# Altium schematic symbol library Power.SchLib: 17 symbols
Pins are listed as number, name and electrical type; pins without a type are passive.

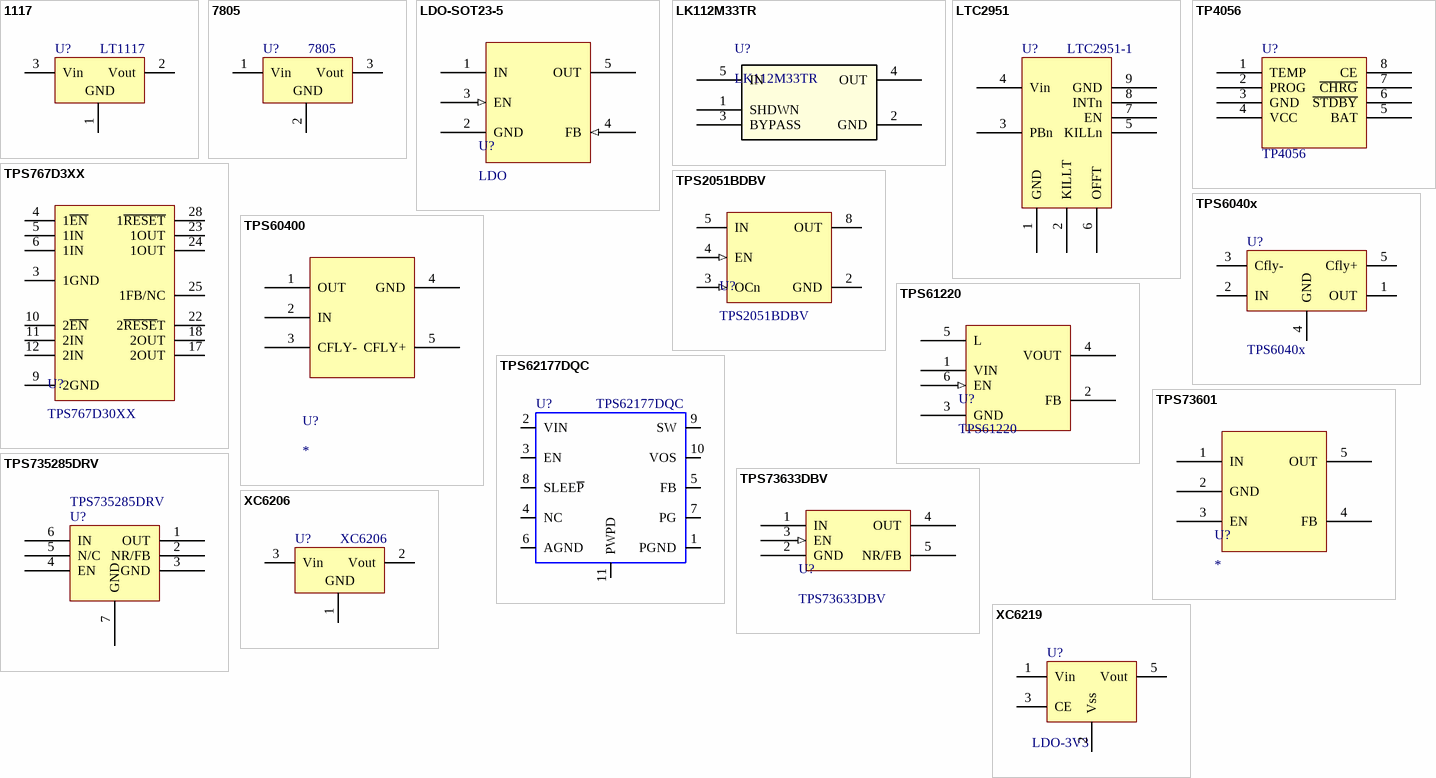
[diagram p0: symbols 1117 to XC6219]

## 1117
designator U?, comment LT1117
1117- 3.3 2.5 1.8; Published: 24-Mar-1999; LatestRevisionDate: 29-May-2009; LatestRevisionNote: IPC-7351 Footprint Added.; PackageReference: D2PAK; Publisher: Altium Limited; PackageDescription: 3-Pin Transistor Outline Package 2.54 mm Pitch, 15.1 mm Lead Span
footprint MP04A_L (SOT223, 4-Leads, Body 6.5x3.5mm, Pitch 2.3mm, Lead Span 7mm, IPC High Density)
pins: 1 GND/ADJUST, 2 Vout, 3 Vin
text: GND

## 7805
designator U?
Published: 24-Mar-1999; LatestRevisionDate: 29-May-2009; LatestRevisionNote: IPC-7351 Footprint Added.; PackageReference: D2PAK; Publisher: Altium Limited; PackageDescription: 3-Pin Transistor Outline Package 2.54 mm Pitch, 15.1 mm Lead Span
footprint TO-220
pins: 1 Vin, 2 GND, 3 Vout

## LDO-SOT23-5
designator U?, comment LDO
General LDO SOT23-5
footprint SOT23-5
pins: 1 IN (power), 2 GND (power), 3 EN (in), 4 FB (in), 5 OUT (power)

## LK112M33TR
designator U?
pins: 1 SHDWN, 2 GND, 3 BYPASS, 4 OUT, 5 IN

## LTC2951
designator U?, comment LTC2951-1
Part Number: LTC2951CDDB-1#TRMPBF; Manufacturer: Linear Technology
footprint LTC2951
pins: 1 GND, 2 KILLT, 3 PBn, 4 Vin, 5 KILLn, 6 OFFT, 7 EN, 8 INTn, 9 GND

## TP4056
designator U?
Li-Charging IC
footprint SOP8_L (8-Pin Small Outline Integrated Circuit 1.27 mm Pitch, IPC High Density)
pins: 1 TEMP, 2 PROG, 3 GND, 4 VCC, 5 BAT, 6 ~{STDBY}, 7 ~{CHRG}, 8 CE

## TPS767D3XX
designator U?, comment TPS767D30XX
DUAL-OUTPUT LOW-DROPOUT VOLTAGE REGULATORS
footprint HTSSOP
pins: 3 1GND (power), 4 1~{EN} (power), 5 1IN (power), 6 1IN (power), 9 2GND (power), 10 2~{EN} (power), 11 2IN (power), 12 2IN (power), 17 2OUT (power), 18 2OUT (power), 22 2~{RESE}T (power), 23 1OUT (power), 24 1OUT (power), 25 1FB/NC (power), 28 1~{RESET} (power)

## TPS2051BDBV
designator U?
footprint SOT23-5
pins: 2 GND (power), 3 OCn (in), 4 EN (in), 5 IN (power), 8 OUT (power)

## TPS6040x
designator U?
UNREGULATED 60-mA CHARGE PUMP VOLTAGE INVERTER
footprint SOT23-5
pins: 1 OUT, 2 IN, 3 Cfly-, 4 GND, 5 Cfly+

## TPS60400
designator U?
VOLTAGE INVERTTER
footprint SOT23-5
pins: 1 OUT, 2 IN, 3 CFLY-, 4 GND, 5 CFLY+

## TPS61220
designator U?
Boost Converter with Low Quiescent Current
pins: 1 VIN (power), 2 FB (power), 3 GND (power), 4 VOUT (power), 5 L (power), 6 EN (in)

## TPS62177DQC
designator U?
Regulator, Step Down  3.3V, 0.5A; GNUM: G51-DQC10-2177-AAA; PCB DECAL: DQC-10P; Part Number: TPS62177DQC; Value: TPS62177DQC
footprint DQC-10P
pins: 1 PGND, 2 VIN, 3 EN, 4 NC, 5 FB, 6 AGND, 7 PG, 8 SLEE~{P}, 9 SW, 10 VOS, 11 PWPD

## TPS73601
designator U?
LDR
footprint SOT23-5
pins: 1 IN, 2 GND, 3 EN, 4 FB, 5 OUT

## TPS73633DBV
designator U?
NMOS, 400mA LDO with Reverse Current Protection
pins: 1 IN (power), 2 GND (power), 3 EN (in), 4 OUT (power), 5 NR/FB (power)

## TPS735285DRV
designator U?
500mA, Low Quiescent Current, Ultra-Low Noise, High PSRR  Low-Dropout Linear Regulato; Manufacturer: Texas Instrument; Part Number: TPS735285DRV
footprint TPS735285DRV_new - duplicate
pins: 1 OUT, 2 NR/FB, 3 GND, 4 EN, 5 N/C, 6 IN, 7 GND

## XC6206
designator U?
Published: 24-Mar-1999; LatestRevisionDate: 29-May-2009; LatestRevisionNote: IPC-7351 Footprint Added.; PackageReference: D2PAK; Publisher: Altium Limited; PackageDescription: 3-Pin Transistor Outline Package 2.54 mm Pitch, 15.1 mm Lead Span
footprint SOT-23A (SOT-23 footprint)
pins: 1 GND/ADJUST, 2 Vout, 3 Vin
text: GND

## XC6219
designator U?, comment LDO-3V3
LDO
footprint SOT23-5
pins: 1 Vin, 2 Vss, 3 CE, 4 NC hidden, 5 Vout